# EAGLE library part L4960 (library ST_Microelctronics_By_element14_Batch_1)
2.5A POWER SWITCHING REGULATOR
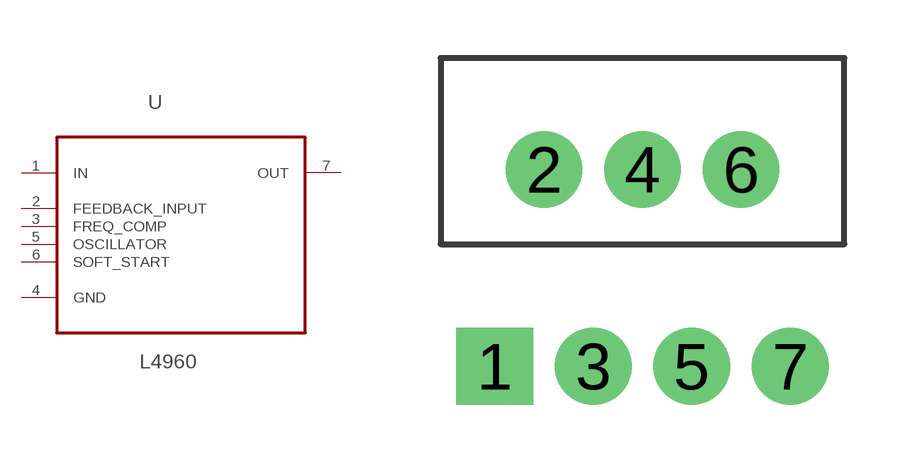
[diagram p35: symbol with the pads of TO127P762X1792-7; footprint TO127P762X1792-7]

Designator prefix U

## L4960 (MPN: L4960; OC_FARNELL: 1077136; OC_NEWARK: 05M6673; PACKAGE: TO-220-7; SUPPLIER: STMICROELECTRONICS)  [TO127P762X1792-7]
1  IN  pwr
2  FEEDBACK_INPUT  in
3  FREQ_COMP  in
4  GND  pas
5  OSCILLATOR  in
6  SOFT_START  in
7  OUT  out

## Footprint TO127P762X1792-7 (pad centres in mm)
drill 1.321 square: 1 -7.62,-11.1
drill 1.321: 2 -6.35,-6.02; 3 -5.08,-11.1; 4 -3.81,-6.02; 5 -2.54,-11.1; 6 -1.27,-6.02; 7 0,-11.1